# EAGLE library part 74LVC1G157 (library BERGCloud-OSH)
NXP 74LVC1G157 Single 2-input multiplexer Created by AH. BERG Cloud <http://www.bergcloud.com>
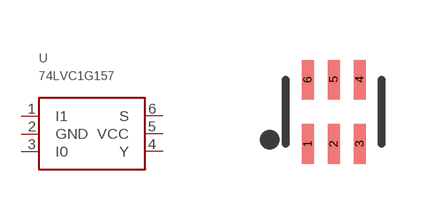
[diagram p5: symbol with the pads of SOT363; footprint SOT363]

Designator prefix -

## 74LVC1G157GW (PACKAGE: SOT363)  [SOT363]
1  I1
2  GND
3  I0
4  Y
5  VCC
6  S

## Footprint SOT363 (pad centres in mm)
smd 0.3 x 0.99: 1 -0.65,-0.8; 2 0,-0.8; 3 0.65,-0.8; 4 0.65,0.81; 5 0,0.81; 6 -0.65,0.81